# Altium schematic symbol library SCH - MCU - STM32 - ST MICROELECTRONICS STM32U535VETXQ LQFP100.SchLib: 1 symbol
Pins are listed as number, name and electrical type; pins without a type are passive.

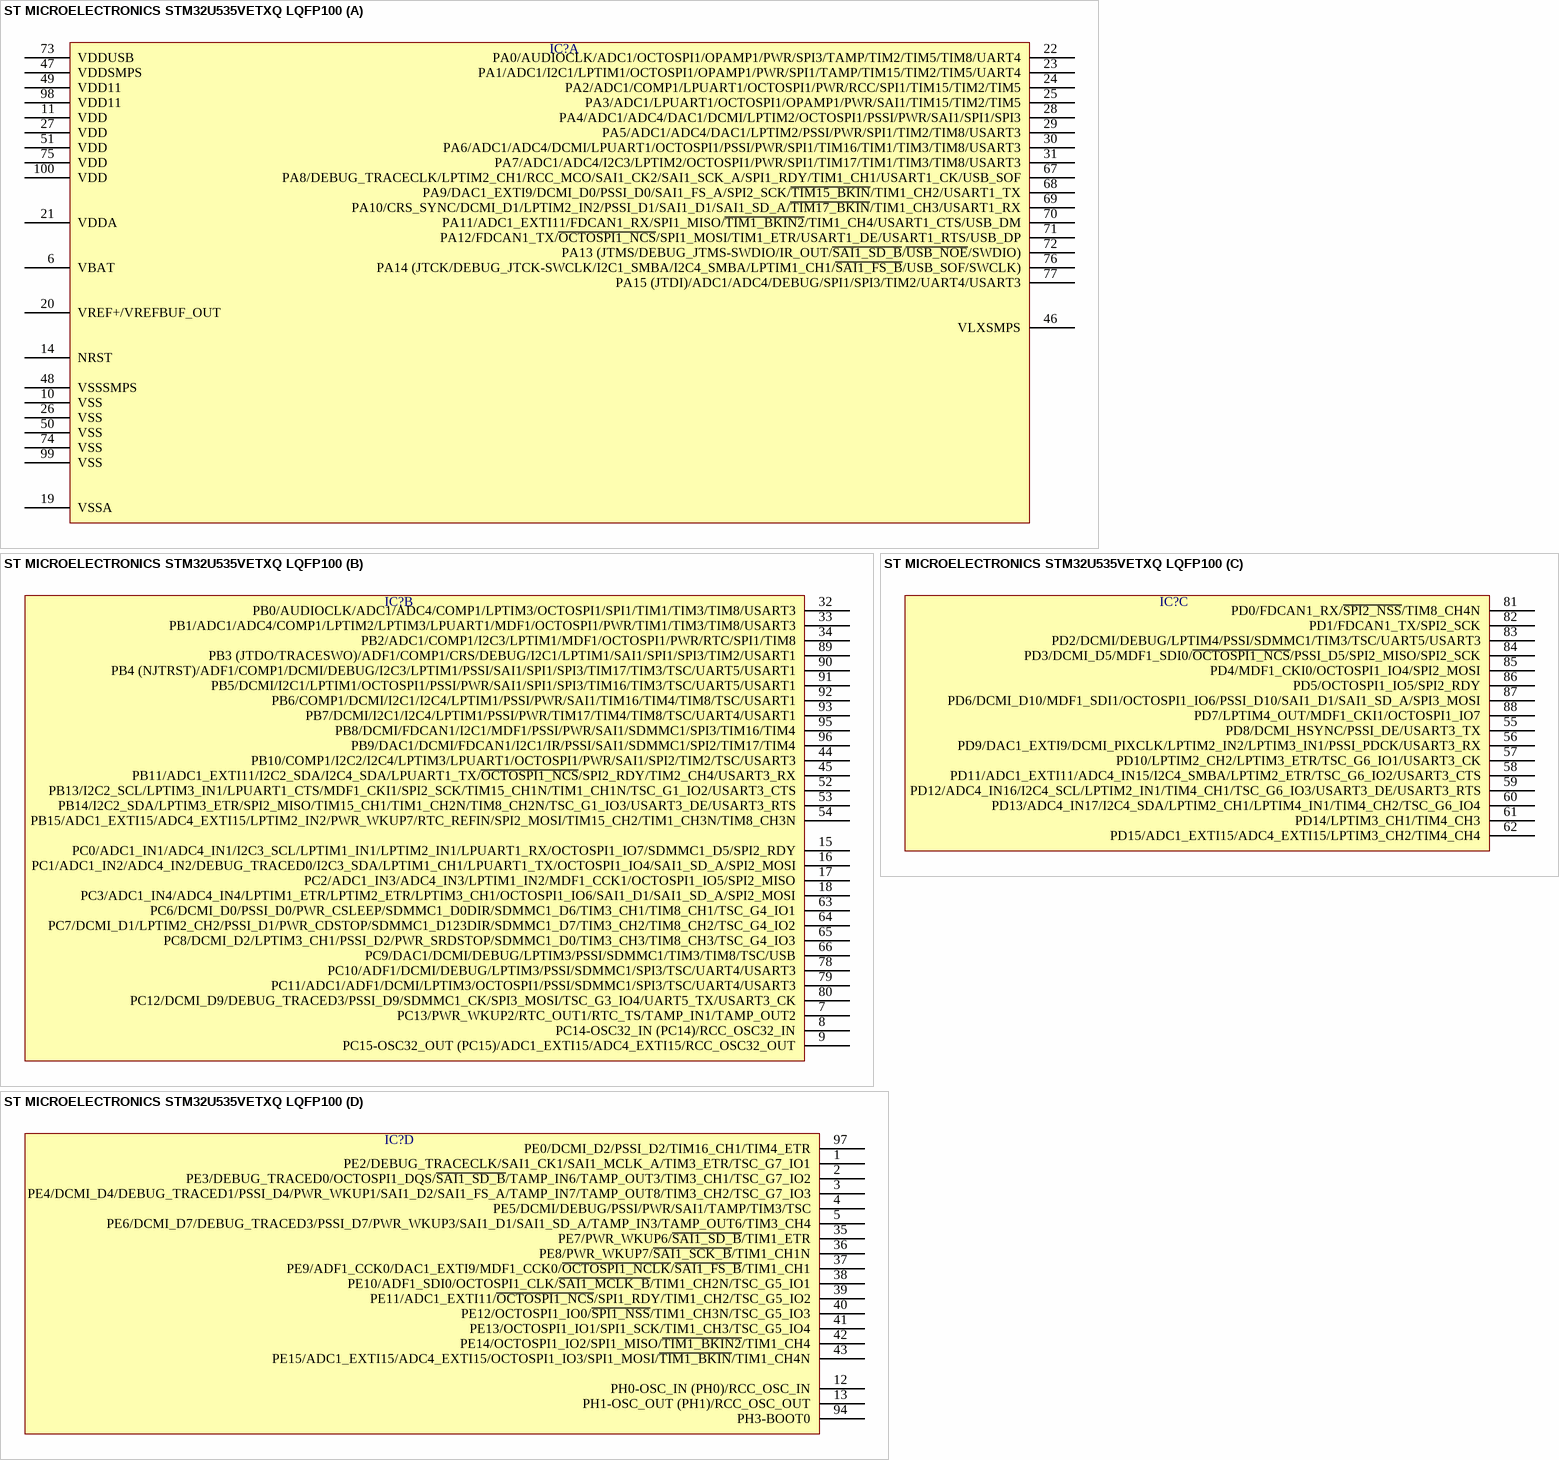
[diagram p0: symbol ST MICROELECTRONICS STM32U535VETXQ LQFP100]

## ST MICROELECTRONICS STM32U535VETXQ LQFP100
designator IC?  (value not drawn)
part A pins: 6 VBAT, 10 VSS, 11 VDD, 14 NRST, 19 VSSA, 20 VREF+/VREFBUF_OUT, 21 VDDA, 22 PA0/AUDIOCLK/ADC1/OCTOSPI1/OPAMP1/PWR/SPI3/TAMP/TIM2/TIM5/TIM8/UART4, 23 PA1/ADC1/I2C1/LPTIM1/OCTOSPI1/OPAMP1/PWR/SPI1/TAMP/TIM15/TIM2/TIM5/UART4, 24 PA2/ADC1/COMP1/LPUART1/OCTOSPI1/PWR/RCC/SPI1/TIM15/TIM2/TIM5, 25 PA3/ADC1/LPUART1/OCTOSPI1/OPAMP1/PWR/SAI1/TIM15/TIM2/TIM5, 26 VSS, 27 VDD, 28 PA4/ADC1/ADC4/DAC1/DCMI/LPTIM2/OCTOSPI1/PSSI/PWR/SAI1/SPI1/SPI3, 29 PA5/ADC1/ADC4/DAC1/LPTIM2/PSSI/PWR/SPI1/TIM2/TIM8/USART3, 30 PA6/ADC1/ADC4/DCMI/LPUART1/OCTOSPI1/PSSI/PWR/SPI1/TIM16/TIM1/TIM3/TIM8/USART3, 31 PA7/ADC1/ADC4/I2C3/LPTIM2/OCTOSPI1/PWR/SPI1/TIM17/TIM1/TIM3/TIM8/USART3, 46 VLXSMPS, 47 VDDSMPS, 48 VSSSMPS, 49 VDD11, 50 VSS, 51 VDD, 67 PA8/DEBUG_TRACECLK/LPTIM2_CH1/RCC_MCO/SAI1_CK2/SAI1_SCK_A/SPI1_RDY/TIM1_CH1/USART1_CK/USB_SOF, 68 PA9/DAC1_EXTI9/DCMI_D0/PSSI_D0/SAI1_FS_A/SPI2_SCK/~{TIM15_BKIN}/TIM1_CH2/USART1_TX, 69 PA10/CRS_SYNC/DCMI_D1/LPTIM2_IN2/PSSI_D1/SAI1_D1/SAI1_SD_A/~{TIM17_BKIN}/TIM1_CH3/USART1_RX, 70 PA11/ADC1_EXTI11/FDCAN1_RX/SPI1_MISO/~{TIM1_BKIN2}/TIM1_CH4/USART1_CTS/USB_DM, 71 PA12/FDCAN1_TX/~{OCTOSPI1_NCS}/SPI1_MOSI/TIM1_ETR/USART1_DE/USART1_RTS/USB_DP, 72 PA13 (JTMS/DEBUG_JTMS-SWDIO/IR_OUT/~{SAI1_SD_B}/~{USB_NOE}/SWDIO), 73 VDDUSB, 74 VSS, 75 VDD, 76 PA14 (JTCK/DEBUG_JTCK-SWCLK/I2C1_SMBA/I2C4_SMBA/LPTIM1_CH1/~{SAI1_FS_B}/USB_SOF/SWCLK), 77 PA15 (JTDI)/ADC1/ADC4/DEBUG/SPI1/SPI3/TIM2/UART4/USART3, 98 VDD11, 99 VSS, 100 VDD
part B pins: 7 PC13/PWR_WKUP2/RTC_OUT1/RTC_TS/TAMP_IN1/TAMP_OUT2, 8 PC14-OSC32_IN (PC14)/RCC_OSC32_IN, 9 PC15-OSC32_OUT (PC15)/ADC1_EXTI15/ADC4_EXTI15/RCC_OSC32_OUT, 15 PC0/ADC1_IN1/ADC4_IN1/I2C3_SCL/LPTIM1_IN1/LPTIM2_IN1/LPUART1_RX/OCTOSPI1_IO7/SDMMC1_D5/SPI2_RDY, 16 PC1/ADC1_IN2/ADC4_IN2/DEBUG_TRACED0/I2C3_SDA/LPTIM1_CH1/LPUART1_TX/OCTOSPI1_IO4/SAI1_SD_A/SPI2_MOSI, 17 PC2/ADC1_IN3/ADC4_IN3/LPTIM1_IN2/MDF1_CCK1/OCTOSPI1_IO5/SPI2_MISO, 18 PC3/ADC1_IN4/ADC4_IN4/LPTIM1_ETR/LPTIM2_ETR/LPTIM3_CH1/OCTOSPI1_IO6/SAI1_D1/SAI1_SD_A/SPI2_MOSI, 32 PB0/AUDIOCLK/ADC1/ADC4/COMP1/LPTIM3/OCTOSPI1/SPI1/TIM1/TIM3/TIM8/USART3, 33 PB1/ADC1/ADC4/COMP1/LPTIM2/LPTIM3/LPUART1/MDF1/OCTOSPI1/PWR/TIM1/TIM3/TIM8/USART3, 34 PB2/ADC1/COMP1/I2C3/LPTIM1/MDF1/OCTOSPI1/PWR/RTC/SPI1/TIM8, 44 PB10/COMP1/I2C2/I2C4/LPTIM3/LPUART1/OCTOSPI1/PWR/SAI1/SPI2/TIM2/TSC/USART3, 45 PB11/ADC1_EXTI11/I2C2_SDA/I2C4_SDA/LPUART1_TX/~{OCTOSPI1_NCS}/SPI2_RDY/TIM2_CH4/USART3_RX, 52 PB13/I2C2_SCL/LPTIM3_IN1/LPUART1_CTS/MDF1_CKI1/SPI2_SCK/TIM15_CH1N/TIM1_CH1N/TSC_G1_IO2/USART3_CTS, 53 PB14/I2C2_SDA/LPTIM3_ETR/SPI2_MISO/TIM15_CH1/TIM1_CH2N/TIM8_CH2N/TSC_G1_IO3/USART3_DE/USART3_RTS, 54 PB15/ADC1_EXTI15/ADC4_EXTI15/LPTIM2_IN2/PWR_WKUP7/RTC_REFIN/SPI2_MOSI/TIM15_CH2/TIM1_CH3N/TIM8_CH3N, 63 PC6/DCMI_D0/PSSI_D0/PWR_CSLEEP/SDMMC1_D0DIR/SDMMC1_D6/TIM3_CH1/TIM8_CH1/TSC_G4_IO1, 64 PC7/DCMI_D1/LPTIM2_CH2/PSSI_D1/PWR_CDSTOP/SDMMC1_D123DIR/SDMMC1_D7/TIM3_CH2/TIM8_CH2/TSC_G4_IO2, 65 PC8/DCMI_D2/LPTIM3_CH1/PSSI_D2/PWR_SRDSTOP/SDMMC1_D0/TIM3_CH3/TIM8_CH3/TSC_G4_IO3, 66 PC9/DAC1/DCMI/DEBUG/LPTIM3/PSSI/SDMMC1/TIM3/TIM8/TSC/USB, 78 PC10/ADF1/DCMI/DEBUG/LPTIM3/PSSI/SDMMC1/SPI3/TSC/UART4/USART3, 79 PC11/ADC1/ADF1/DCMI/LPTIM3/OCTOSPI1/PSSI/SDMMC1/SPI3/TSC/UART4/USART3, 80 PC12/DCMI_D9/DEBUG_TRACED3/PSSI_D9/SDMMC1_CK/SPI3_MOSI/TSC_G3_IO4/UART5_TX/USART3_CK, 89 PB3 (JTDO/TRACESWO)/ADF1/COMP1/CRS/DEBUG/I2C1/LPTIM1/SAI1/SPI1/SPI3/TIM2/USART1, 90 PB4 (NJTRST)/ADF1/COMP1/DCMI/DEBUG/I2C3/LPTIM1/PSSI/SAI1/SPI1/SPI3/TIM17/TIM3/TSC/UART5/USART1, 91 PB5/DCMI/I2C1/LPTIM1/OCTOSPI1/PSSI/PWR/SAI1/SPI1/SPI3/TIM16/TIM3/TSC/UART5/USART1, 92 PB6/COMP1/DCMI/I2C1/I2C4/LPTIM1/PSSI/PWR/SAI1/TIM16/TIM4/TIM8/TSC/USART1, 93 PB7/DCMI/I2C1/I2C4/LPTIM1/PSSI/PWR/TIM17/TIM4/TIM8/TSC/UART4/USART1, 95 PB8/DCMI/FDCAN1/I2C1/MDF1/PSSI/PWR/SAI1/SDMMC1/SPI3/TIM16/TIM4, 96 PB9/DAC1/DCMI/FDCAN1/I2C1/IR/PSSI/SAI1/SDMMC1/SPI2/TIM17/TIM4
part C pins: 55 PD8/DCMI_HSYNC/PSSI_DE/USART3_TX, 56 PD9/DAC1_EXTI9/DCMI_PIXCLK/LPTIM2_IN2/LPTIM3_IN1/PSSI_PDCK/USART3_RX, 57 PD10/LPTIM2_CH2/LPTIM3_ETR/TSC_G6_IO1/USART3_CK, 58 PD11/ADC1_EXTI11/ADC4_IN15/I2C4_SMBA/LPTIM2_ETR/TSC_G6_IO2/USART3_CTS, 59 PD12/ADC4_IN16/I2C4_SCL/LPTIM2_IN1/TIM4_CH1/TSC_G6_IO3/USART3_DE/USART3_RTS, 60 PD13/ADC4_IN17/I2C4_SDA/LPTIM2_CH1/LPTIM4_IN1/TIM4_CH2/TSC_G6_IO4, 61 PD14/LPTIM3_CH1/TIM4_CH3, 62 PD15/ADC1_EXTI15/ADC4_EXTI15/LPTIM3_CH2/TIM4_CH4, 81 PD0/FDCAN1_RX/~{SPI2_NSS}/TIM8_CH4N, 82 PD1/FDCAN1_TX/SPI2_SCK, 83 PD2/DCMI/DEBUG/LPTIM4/PSSI/SDMMC1/TIM3/TSC/UART5/USART3, 84 PD3/DCMI_D5/MDF1_SDI0/~{OCTOSPI1_NCS}/PSSI_D5/SPI2_MISO/SPI2_SCK, 85 PD4/MDF1_CKI0/OCTOSPI1_IO4/SPI2_MOSI, 86 PD5/OCTOSPI1_IO5/SPI2_RDY, 87 PD6/DCMI_D10/MDF1_SDI1/OCTOSPI1_IO6/PSSI_D10/SAI1_D1/SAI1_SD_A/SPI3_MOSI, 88 PD7/LPTIM4_OUT/MDF1_CKI1/OCTOSPI1_IO7
part D pins: 1 PE2/DEBUG_TRACECLK/SAI1_CK1/SAI1_MCLK_A/TIM3_ETR/TSC_G7_IO1, 2 PE3/DEBUG_TRACED0/OCTOSPI1_DQS/~{SAI1_SD_B}/TAMP_IN6/TAMP_OUT3/TIM3_CH1/TSC_G7_IO2, 3 PE4/DCMI_D4/DEBUG_TRACED1/PSSI_D4/PWR_WKUP1/SAI1_D2/SAI1_FS_A/TAMP_IN7/TAMP_OUT8/TIM3_CH2/TSC_G7_IO3, 4 PE5/DCMI/DEBUG/PSSI/PWR/SAI1/TAMP/TIM3/TSC, 5 PE6/DCMI_D7/DEBUG_TRACED3/PSSI_D7/PWR_WKUP3/SAI1_D1/SAI1_SD_A/TAMP_IN3/TAMP_OUT6/TIM3_CH4, 12 PH0-OSC_IN (PH0)/RCC_OSC_IN, 13 PH1-OSC_OUT (PH1)/RCC_OSC_OUT, 35 PE7/PWR_WKUP6/~{SAI1_SD_B}/TIM1_ETR, 36 PE8/PWR_WKUP7/~{SAI1_SCK_B}/TIM1_CH1N, 37 PE9/ADF1_CCK0/DAC1_EXTI9/MDF1_CCK0/~{OCTOSPI1_NCLK}/~{SAI1_FS_B}/TIM1_CH1, 38 PE10/ADF1_SDI0/OCTOSPI1_CLK/~{SAI1_MCLK_B}/TIM1_CH2N/TSC_G5_IO1, 39 PE11/ADC1_EXTI11/~{OCTOSPI1_NCS}/SPI1_RDY/TIM1_CH2/TSC_G5_IO2, 40 PE12/OCTOSPI1_IO0/~{SPI1_NSS}/TIM1_CH3N/TSC_G5_IO3, 41 PE13/OCTOSPI1_IO1/SPI1_SCK/TIM1_CH3/TSC_G5_IO4, 42 PE14/OCTOSPI1_IO2/SPI1_MISO/~{TIM1_BKIN2}/TIM1_CH4, 43 PE15/ADC1_EXTI15/ADC4_EXTI15/OCTOSPI1_IO3/SPI1_MOSI/~{TIM1_BKIN}/TIM1_CH4N, 94 PH3-BOOT0, 97 PE0/DCMI_D2/PSSI_D2/TIM16_CH1/TIM4_ETR